# Altium footprint library eecs5x.PcbLib: 161 footprints (part 2 of 11)
Each footprint in its own frame and in the unit in brackets; x right, y up, seen from the top. Pads: shape width x height; smd on the part's side, far side on the other; paste and mask are expansions set on the pad; w line width, h text height; cw(c..) or ccw(c..) is an arc to the next point about the centre after c.
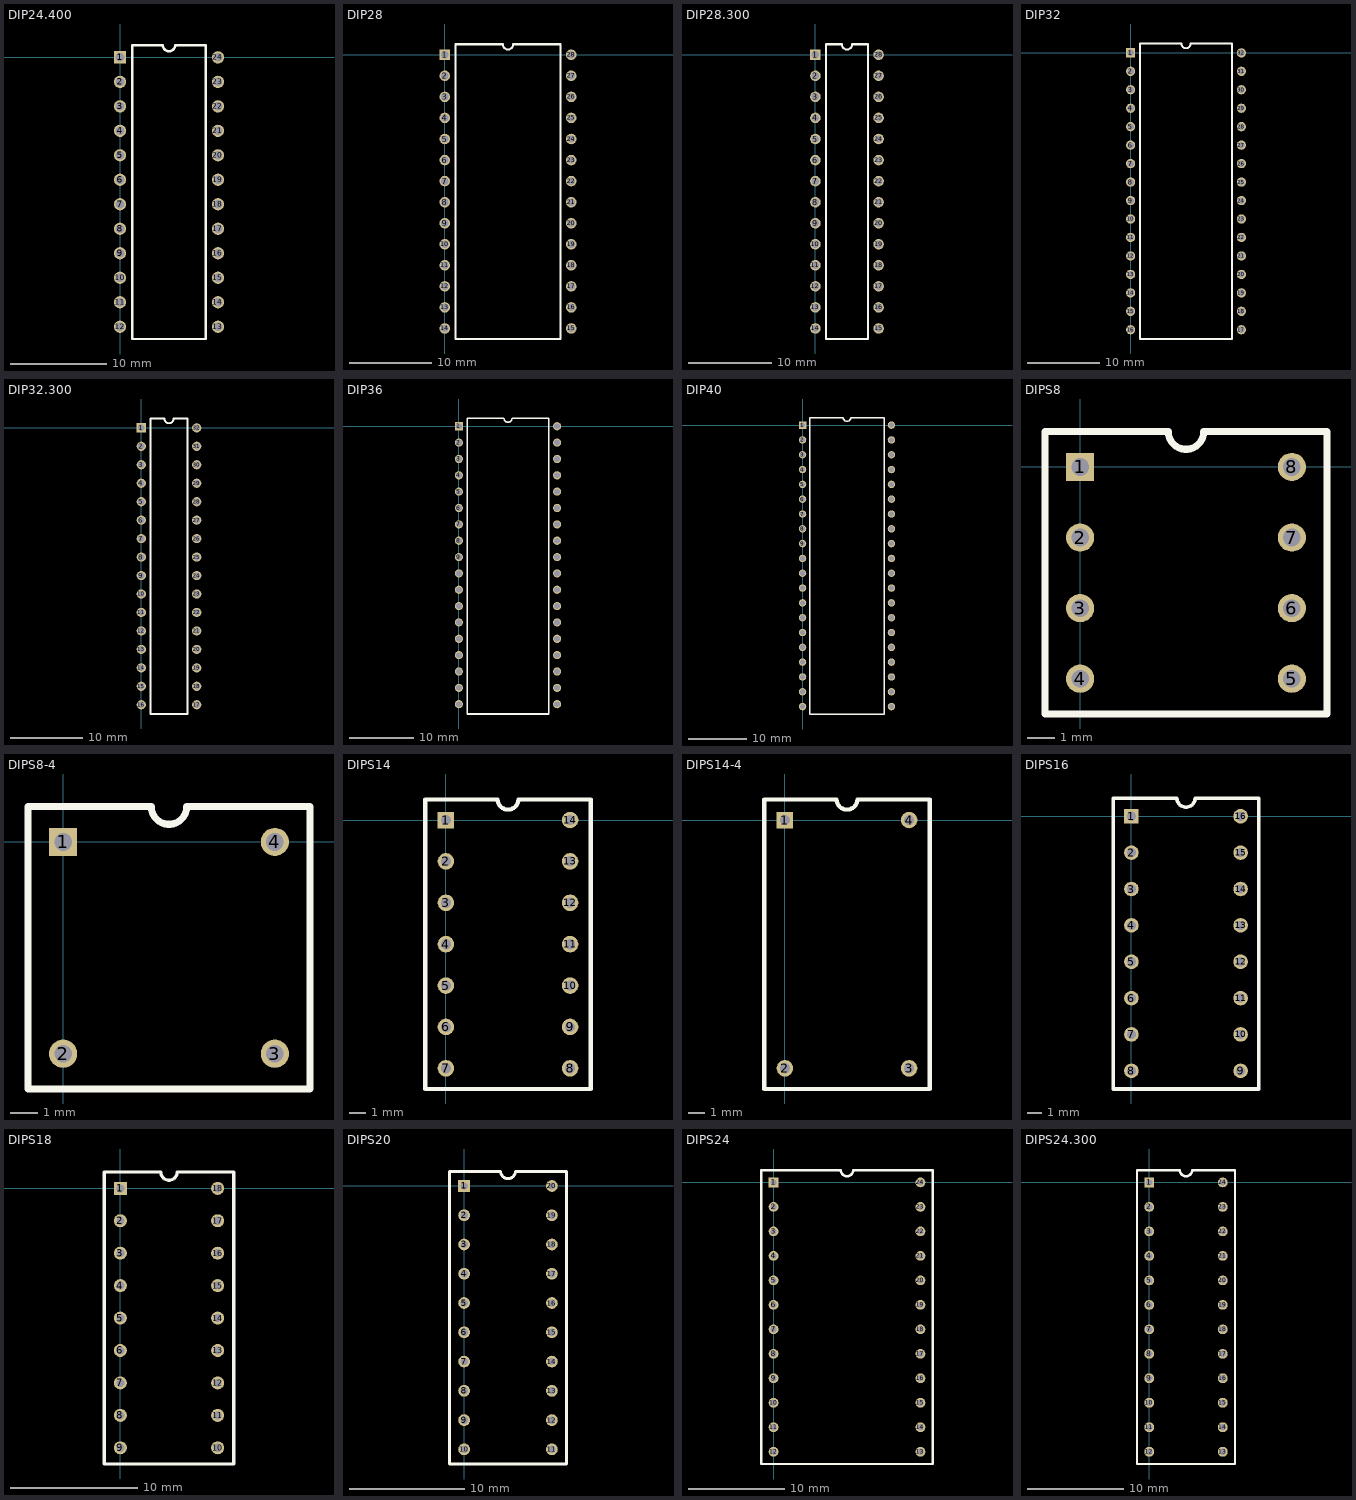
[diagram p1: the footprints below, top view; thin cyan lines are the x and y axes]

## DIP24.400 [mil]
pads (24):
  rect 50x50 hole 35: 1(0,0)
  round 50 hole 35: 2(0,-100) 3(0,-200) 4(0,-300) 5(0,-400) 6(0,-500) 7(0,-600) 8(0,-700) 9(0,-800) 10(0,-900) 11(0,-1000) 12(0,-1100) 13(400,-1100) 14(400,-1000) 15(400,-900) 16(400,-800) 17(400,-700) 18(400,-600) 19(400,-500) 20(400,-400) 21(400,-300) 22(400,-200) 23(400,-100) 24(400,0)
Top Overlay:
  lines w10: 50,-1150 50,50 175,50 ccw(c200,50) 225,50 350,50 350,-1150 50,-1150

## DIP28 [mil]
pads (28):
  rect 50x50 hole 35: 1(0,0)
  round 50 hole 35: 2(0,-100) 3(0,-200) 4(0,-300) 5(0,-400) 6(0,-500) 7(0,-600) 8(0,-700) 9(0,-800) 10(0,-900) 11(0,-1000) 12(0,-1100) 13(0,-1200) 14(0,-1300) 15(600,-1300) 16(600,-1200) 17(600,-1100) 18(600,-1000) 19(600,-900) 20(600,-800) 21(600,-700) 22(600,-600) 23(600,-500) 24(600,-400) 25(600,-300) 26(600,-200) 27(600,-100) 28(600,0)
Top Overlay:
  lines w10: 50,-1350 50,50 275,50 ccw(c300,50) 325,50 550,50 550,-1350 50,-1350

## DIP28.300 [mil]
pads (28):
  rect 50x50 hole 35: 1(0,0)
  round 50 hole 35: 2(0,-100) 3(0,-200) 4(0,-300) 5(0,-400) 6(0,-500) 7(0,-600) 8(0,-700) 9(0,-800) 10(0,-900) 11(0,-1000) 12(0,-1100) 13(0,-1200) 14(0,-1300) 15(300,-1300) 16(300,-1200) 17(300,-1100) 18(300,-1000) 19(300,-900) 20(300,-800) 21(300,-700) 22(300,-600) 23(300,-500) 24(300,-400) 25(300,-300) 26(300,-200) 27(300,-100) 28(300,0)
Top Overlay:
  lines w10: 50,-1350 50,50 125,50 ccw(c150,50) 175,50 250,50 250,-1350 50,-1350

## DIP32 [mil]
pads (32):
  rect 50x50 hole 35: 1(0,0)
  round 50 hole 35: 2(0,-100) 3(0,-200) 4(0,-300) 5(0,-400) 6(0,-500) 7(0,-600) 8(0,-700) 9(0,-800) 10(0,-900) 11(0,-1000) 12(0,-1100) 13(0,-1200) 14(0,-1300) 15(0,-1400) 16(0,-1500) 17(600,-1500) 18(600,-1400) 19(600,-1300) 20(600,-1200) 21(600,-1100) 22(600,-1000) 23(600,-900) 24(600,-800) 25(600,-700) 26(600,-600) 27(600,-500) 28(600,-400) 29(600,-300) 30(600,-200) 31(600,-100) 32(600,0)
Top Overlay:
  lines w10: 50,-1550 50,50 275,50 ccw(c300,50) 325,50 550,50 550,-1550 50,-1550

## DIP32.300 [mil]
pads (32):
  rect 50x50 hole 35: 1(0,0)
  round 50 hole 35: 2(0,-100) 3(0,-200) 4(0,-300) 5(0,-400) 6(0,-500) 7(0,-600) 8(0,-700) 9(0,-800) 10(0,-900) 11(0,-1000) 12(0,-1100) 13(0,-1200) 14(0,-1300) 15(0,-1400) 16(0,-1500) 17(300,-1500) 18(300,-1400) 19(300,-1300) 20(300,-1200) 21(300,-1100) 22(300,-1000) 23(300,-900) 24(300,-800) 25(300,-700) 26(300,-600) 27(300,-500) 28(300,-400) 29(300,-300) 30(300,-200) 31(300,-100) 32(300,0)
Top Overlay:
  lines w10: 50,-1550 50,50 125,50 ccw(c150,50) 175,50 250,50 250,-1550 50,-1550

## DIP36 [mil]
pads (36):
  rect 50x50 hole 35: 1(0,0)
  round 50 hole 35: 2(0,-100) 3(0,-200) 4(0,-300) 5(0,-400) 6(0,-500) 7(0,-600) 8(0,-700) 9(0,-800) 10(0,-900) 11(0,-1000) 12(0,-1100) 13(0,-1200) 14(0,-1300) 15(0,-1400) 16(0,-1500) 17(0,-1600) 18(0,-1700) 19(600,-1700) 20(600,-1600) 21(600,-1500) 22(600,-1400) 23(600,-1300) 24(600,-1200) 25(600,-1100) 26(600,-1000) 27(600,-900) 28(600,-800) 29(600,-700) 30(600,-600) 31(600,-500) 32(600,-400) 33(600,-300) 34(600,-200) 35(600,-100) 36(600,0)
Top Overlay:
  lines w10: 50,-1760 50,50 275,50 ccw(c300,50) 325,50 550,50 550,-1760 50,-1760

## DIP40 [mil]
pads (40):
  rect 50x50 hole 35: 1(0,0)
  round 50 hole 35: 2(0,-100) 3(0,-200) 4(0,-300) 5(0,-400) 6(0,-500) 7(0,-600) 8(0,-700) 9(0,-800) 10(0,-900) 11(0,-1000) 12(0,-1100) 13(0,-1200) 14(0,-1300) 15(0,-1400) 16(0,-1500) 17(0,-1600) 18(0,-1700) 19(0,-1800) 20(0,-1900) 21(600,-1900) 22(600,-1800) 23(600,-1700) 24(600,-1600) 25(600,-1500) 26(600,-1400) 27(600,-1300) 28(600,-1200) 29(600,-1100) 30(600,-1000) 31(600,-900) 32(600,-800) 33(600,-700) 34(600,-600) 35(600,-500) 36(600,-400) 37(600,-300) 38(600,-200) 39(600,-100) 40(600,0)
Top Overlay:
  lines w10: 50,-1950 50,50 275,50 ccw(c300,50) 325,50 550,50 550,-1950 50,-1950

## DIPS8 [mil]
pads (8):
  rect 40x40 hole 25: 1(0,0)
  round 40 hole 25: 2(0,-100) 3(0,-200) 4(0,-300) 5(300,-300) 6(300,-200) 7(300,-100) 8(300,0)
Top Overlay:
  lines w10: -50,-350 -50,50 125,50 ccw(c150,50) 175,50 350,50 350,-350 -50,-350

## DIPS8-4 [mil]
pads (4):
  rect 40x40 hole 25: 1(0,0)
  round 40 hole 25: 2(0,-300) 3(300,-300) 4(300,0)
Top Overlay:
  lines w10: -50,-350 -50,50 125,50 ccw(c150,50) 175,50 350,50 350,-350 -50,-350

## DIPS14 [mil]
pads (14):
  rect 40x40 hole 25: 1(0,0)
  round 40 hole 25: 2(0,-100) 3(0,-200) 4(0,-300) 5(0,-400) 6(0,-500) 7(0,-600) 8(300,-600) 9(300,-500) 10(300,-400) 11(300,-300) 12(300,-200) 13(300,-100) 14(300,0)
Top Overlay:
  lines w10: -50,-650 -50,50 125,50 ccw(c150,50) 175,50 350,50 350,-650 -50,-650

## DIPS14-4 [mil]
pads (4):
  rect 40x40 hole 25: 1(0,0)
  round 40 hole 25: 2(0,-600) 3(300,-600) 4(300,0)
Top Overlay:
  lines w10: -50,-650 -50,50 125,50 ccw(c150,50) 175,50 350,50 350,-650 -50,-650

## DIPS16 [mil]
pads (16):
  rect 40x40 hole 25: 1(0,0)
  round 40 hole 25: 2(0,-100) 3(0,-200) 4(0,-300) 5(0,-400) 6(0,-500) 7(0,-600) 8(0,-700) 9(300,-700) 10(300,-600) 11(300,-500) 12(300,-400) 13(300,-300) 14(300,-200) 15(300,-100) 16(300,0)
Top Overlay:
  lines w10: -50,-750 -50,50 125,50 ccw(c150,50) 175,50 350,50 350,-750 -50,-750

## DIPS18 [mil]
pads (18):
  rect 40x40 hole 25: 1(0,0)
  round 40 hole 25: 2(0,-100) 3(0,-200) 4(0,-300) 5(0,-400) 6(0,-500) 7(0,-600) 8(0,-700) 9(0,-800) 10(300,-800) 11(300,-700) 12(300,-600) 13(300,-500) 14(300,-400) 15(300,-300) 16(300,-200) 17(300,-100) 18(300,0)
Top Overlay:
  lines w10: -50,-850 -50,50 125,50 ccw(c150,50) 175,50 350,50 350,-850 -50,-850

## DIPS20 [mil]
pads (20):
  rect 40x40 hole 25: 1(0,0)
  round 40 hole 25: 2(0,-100) 3(0,-200) 4(0,-300) 5(0,-400) 6(0,-500) 7(0,-600) 8(0,-700) 9(0,-800) 10(0,-900) 11(300,-900) 12(300,-800) 13(300,-700) 14(300,-600) 15(300,-500) 16(300,-400) 17(300,-300) 18(300,-200) 19(300,-100) 20(300,0)
Top Overlay:
  lines w10: -50,-950 -50,50 125,50 ccw(c150,50) 175,50 350,50 350,-950 -50,-950

## DIPS24 [mil]
pads (24):
  rect 40x40 hole 25: 1(0,0)
  round 40 hole 25: 2(0,-100) 3(0,-200) 4(0,-300) 5(0,-400) 6(0,-500) 7(0,-600) 8(0,-700) 9(0,-800) 10(0,-900) 11(0,-1000) 12(0,-1100) 13(600,-1100) 14(600,-1000) 15(600,-900) 16(600,-800) 17(600,-700) 18(600,-600) 19(600,-500) 20(600,-400) 21(600,-300) 22(600,-200) 23(600,-100) 24(600,0)
Top Overlay:
  lines w10: -50,-1150 -50,50 275,50 ccw(c300,50) 325,50 650,50 650,-1150 -50,-1150

## DIPS24.300 [mil]
pads (24):
  rect 40x40 hole 25: 1(0,0)
  round 40 hole 25: 2(0,-100) 3(0,-200) 4(0,-300) 5(0,-400) 6(0,-500) 7(0,-600) 8(0,-700) 9(0,-800) 10(0,-900) 11(0,-1000) 12(0,-1100) 13(300,-1100) 14(300,-1000) 15(300,-900) 16(300,-800) 17(300,-700) 18(300,-600) 19(300,-500) 20(300,-400) 21(300,-300) 22(300,-200) 23(300,-100) 24(300,0)
Top Overlay:
  lines w10: -50,-1150 -50,50 125,50 ccw(c150,50) 175,50 350,50 350,-1150 -50,-1150